# Altium schematic symbol library SS3003CH-TL-E.Schlib: 1 symbol
Pins are listed as number, name and electrical type; pins without a type are passive.

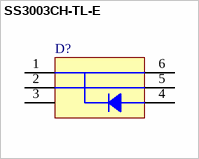
[diagram p0: symbol SS3003CH-TL-E]

## SS3003CH-TL-E
designator D?
Schotkey Diod
pins: 1 C, 2 C, 3 NC, 4 A, 5 C, 6 C